# Altium schematic symbol library Fuse GOST.SchLib: 2 symbols
Pins are listed as number, name and electrical type; pins without a type are passive.

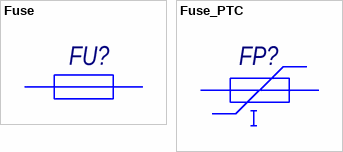
[diagram p0: symbols Fuse to Fuse_PTC]

## Fuse
designator FU?
Published: 24.09.2010; Publisher: Andrew Danich; Type: Вставка плавкая
pins: 1, 2

## Fuse_PTC
designator FP?
Published: 25.0.2017; Type: Предохранитель самовосстанавливающийся
pins: 1, 2